# EAGLE library part DIP-BLACK-MALE-HEADER-R/A(2X3P-2.54-90D) (library Seeed-OPL-Connector)
320020069
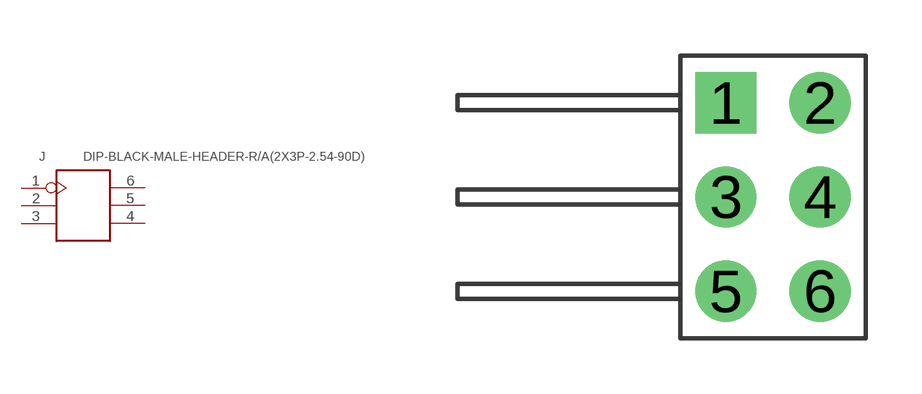
[diagram p143: symbol with the pads of H2X3-2.54-90D; footprint H2X3-2.54-90D]

Designator prefix J

## DIP-BLACK-MALE-HEADER-R/A(2X3P-2.54-90D) (MPN: P125-1206A0BR116A2; VALUE: 2x3p-2.54-90d)  [H2X3-2.54-90D]
1  1
2  2
3  3
4  4
5  5
6  6

## Footprint H2X3-2.54-90D (pad centres in mm)
drill 0.889 pad 1.651 square: 1 -1.27,2.54
drill 0.889 pad 1.651: 2 1.27,2.54; 3 -1.27,0; 4 1.27,0; 5 -1.27,-2.54; 6 1.27,-2.54